# EAGLE library part ARDUINO_NANO (library multimouse)
Arduino NANO Main controller of Multimouse
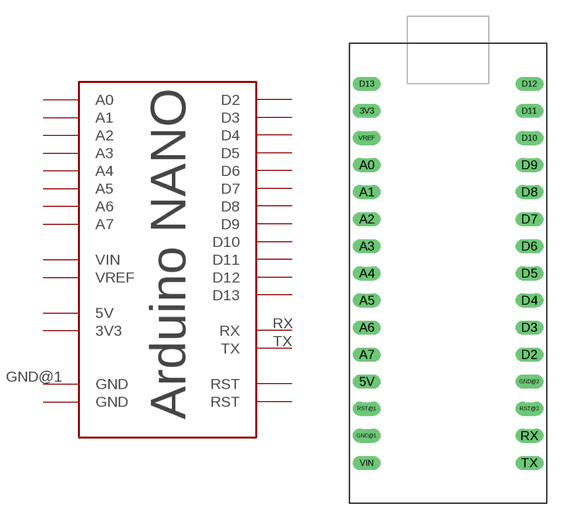
[diagram p0: symbol with the pads of ARDUINO_NANO; footprint ARDUINO_NANO]

Designator prefix U

## ARDUINO_NANO  [ARDUINO_NANO]
3V3  3V3  pwr
5V  5V  pwr
A0  A0  in
A1  A1  in
A2  A2  in
A3  A3  in
A4  A4  in
A5  A5  in
A6  A6  in
A7  A7  in
D2  D2
D3  D3
D4  D4
D5  D5
D6  D6
D7  D7
D8  D8
D9  D9
D10  D10
D11  D11
D12  D12
D13  D13
GND@1  GND  pwr
GND@2  GND  pwr
RST@1  RST
RST@2  RST
RX  RX  in
TX  TX  out
VIN  VIN  pwr
VREF  VREF  pwr

## Footprint ARDUINO_NANO (pad centres in mm)
Arduino NANO
drill 0.8 long: 3V3 -7.62,15.24; 5V -7.62,-10.16; A0 -7.62,10.16; A1 -7.62,7.62; A2 -7.62,5.08; A3 -7.62,2.54; A4 -7.62,0; A5 -7.62,-2.54; A6 -7.62,-5.08; A7 -7.62,-7.62; D2 7.62,-7.62; D3 7.62,-5.08; D4 7.62,-2.54; D5 7.62,0; D6 7.62,2.54; D7 7.62,5.08; D8 7.62,7.62; D9 7.62,10.16; D10 7.62,12.7; D11 7.62,15.24; D12 7.62,17.78; D13 -7.62,17.78; GND@1 -7.62,-15.24; GND@2 7.62,-10.16; RST@1 -7.62,-12.7; RST@2 7.62,-12.7; RX 7.62,-15.24; TX 7.62,-17.78; VIN -7.62,-17.78; VREF -7.62,12.7